# EAGLE library part FH12-6S-0.5S (library zephod-components)
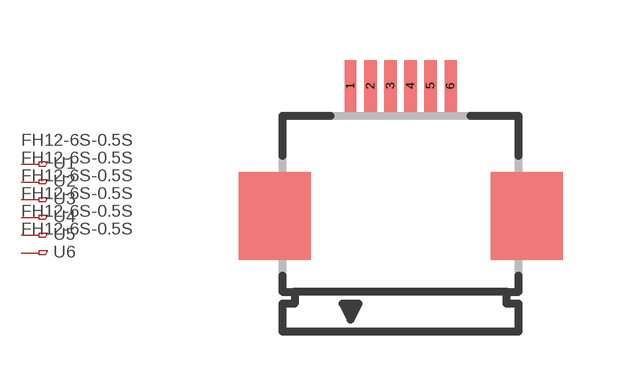
[diagram p13: symbol with the pads of FH12-6S-0.5SH; footprint FH12-6S-0.5SH]

Designator prefix -; gates 1=PINV 2=PINV 3=PINV 4=PINV 5=PINV 6=PINV

## FH12-6S-0.5S  [FH12-6S-0.5SH]
1  1:1  pas
2  2:1  pas
3  3:1  pas
4  4:1  pas
5  5:1  pas
6  6:1  pas

## Footprint FH12-6S-0.5SH (pad centres in mm)
smd 0.3 x 1.3: 1 -1.25,3.25; 2 -0.75,3.25; 3 -0.25,3.25; 4 0.25,3.25; 5 0.75,3.25; 6 1.25,3.25